# EAGLE library part PIC32MM (library PIC32MM0256GPM036_UQFN_40PIN_v9)
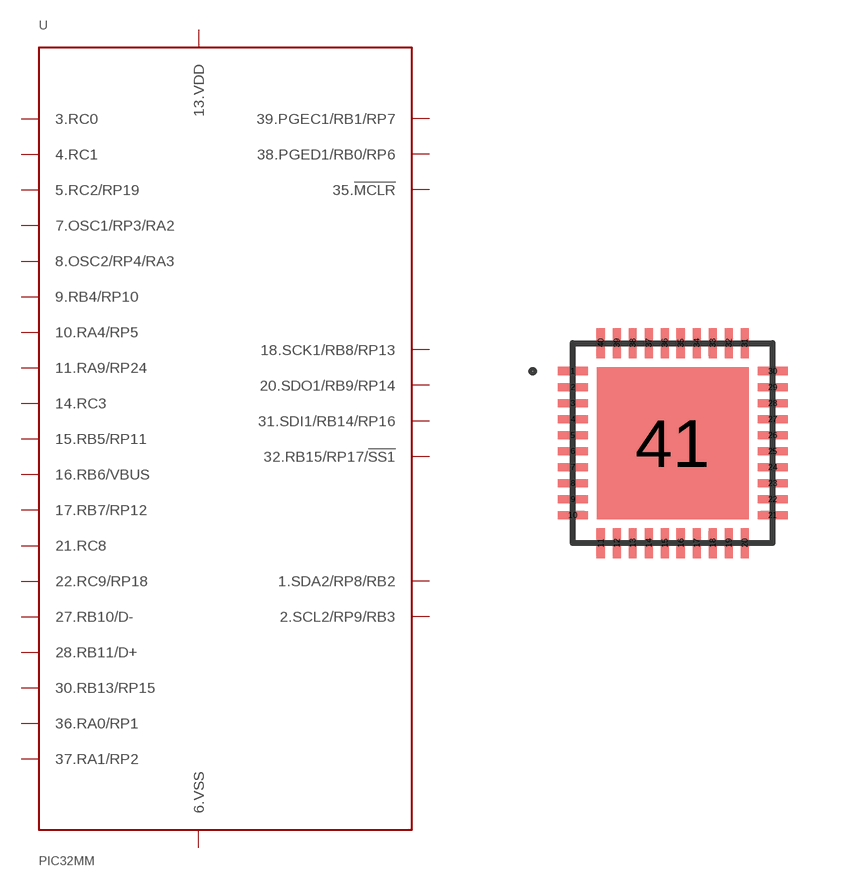
[diagram p0: symbol with the pads of PIC32MM0256GPM036_UQFN_40PIN; footprint PIC32MM0256GPM036_UQFN_40PIN]

Designator prefix -

## PIC32MM"  [PIC32MM0256GPM036_UQFN_40PIN]
1  1.SDA2/RP8/RB2
2  2.SCL2/RP9/RB3
3  3.RC0  in
4  4.RC1  in
5  5.RC2/RP19  in
6  6.VSS  pwr
7  7.OSC1/RP3/RA2
8  8.OSC2/RP4/RA3
9  9.RB4/RP10  in
10  10.RA4/RP5  in
11  11.RA9/RP24  in
12  6.VSS  pwr
13  13.VDD  sup
14  14.RC3  in
15  15.RB5/RP11  in
16  16.RB6/VBUS  in
17  17.RB7/RP12  out
18  18.SCK1/RB8/RP13
20  20.SDO1/RB9/RP14  in
21  21.RC8  out
22  22.RC9/RP18  out
26  13.VDD  sup
27  27.RB10/D-  out
28  28.RB11/D+  out
30  30.RB13/RP15  out
31  31.SDI1/RB14/RP16  out
32  32.RB15/RP17/!SS1  out
33  6.VSS  pwr
34  13.VDD  sup
35  35.!MCLR  in
36  36.RA0/RP1  out
37  37.RA1/RP2  out
38  38.PGED1/RB0/RP6
39  39.PGEC1/RB1/RP7
41  6.VSS  pwr

## Footprint PIC32MM0256GPM036_UQFN_40PIN (pad centres in mm)
smd 0.75 x 0.2: 1 -2.5,1.8; 2 -2.5,1.4; 3 -2.5,1; 4 -2.5,0.6; 5 -2.5,0.2; 6 -2.5,-0.2; 7 -2.5,-0.6; 8 -2.5,-1; 9 -2.5,-1.4; 10 -2.5,-1.8; 21 2.5,-1.8; 22 2.5,-1.4; 23 2.5,-1; 24 2.5,-0.6; 25 2.5,-0.2; 26 2.5,0.2; 27 2.5,0.6; 28 2.5,1; 29 2.5,1.4; 30 2.5,1.8
smd 0.2 x 0.75: 11 -1.8,-2.5; 12 -1.4,-2.5; 13 -1,-2.5; 14 -0.6,-2.5; 15 -0.2,-2.5; 16 0.2,-2.5; 17 0.6,-2.5; 18 1,-2.5; 19 1.4,-2.5; 20 1.8,-2.5; 31 1.8,2.5; 32 1.4,2.5; 33 1,2.5; 34 0.6,2.5; 35 0.2,2.5; 36 -0.2,2.5; 37 -0.6,2.5; 38 -1,2.5; 39 -1.4,2.5; 40 -1.8,2.5
smd 3.8 x 3.8: 41 0,0